# EAGLE library part LARGE8X8 (library jasons_stuff)
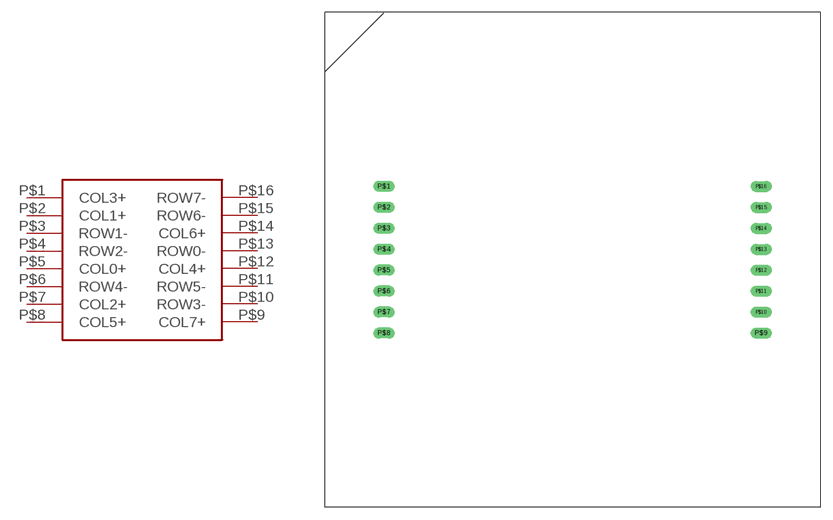
[diagram p45: symbol with the pads of LARGE8X8; footprint LARGE8X8]

Designator prefix -

## LARGE8X8  [LARGE8X8]
P$1  COL3+
P$2  COL1+
P$3  ROW1-
P$4  ROW2-
P$5  COL0+
P$6  ROW4-
P$7  COL2+
P$8  COL5+
P$9  COL7+
P$10  ROW3-
P$11  ROW5-
P$12  COL4+
P$13  ROW0-
P$14  COL6+
P$15  ROW6-
P$16  ROW7-

## Footprint LARGE8X8 (pad centres in mm)
drill 0.8 long: P$1 -22.86,8.89; P$2 -22.86,6.35; P$3 -22.86,3.81; P$4 -22.86,1.27; P$5 -22.86,-1.27; P$6 -22.86,-3.81; P$7 -22.86,-6.35; P$8 -22.86,-8.89; P$9 22.86,-8.89; P$10 22.86,-6.35; P$11 22.86,-3.81; P$12 22.86,-1.27; P$13 22.86,1.27; P$14 22.86,3.81; P$15 22.86,6.35; P$16 22.86,8.89